# Altium footprint library PcbLib1.PcbLib: 2 footprints
Each footprint in its own frame and in the unit in brackets; x right, y up, seen from the top. Pads: shape width x height; smd on the part's side, far side on the other; paste and mask are expansions set on the pad; w line width, h text height; cw(c..) or ccw(c..) is an arc to the next point about the centre after c.
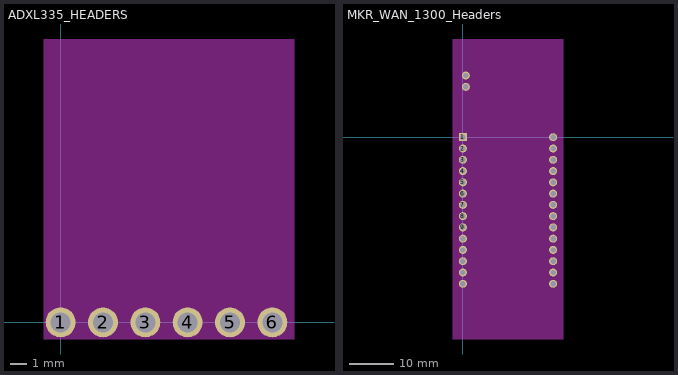
[diagram p0: the footprints below, top view; thin cyan lines are the x and y axes]

## ADXL335_HEADERS [mm]
pads (6):
  round 1.8 hole 1.2: 1(0,0) 2(2.54,0) 3(5.08,0) 4(7.62,0) 5(10.16,0) 6(12.7,0)
Keep-Out Layer:
  region: -1,-1 14,-1 14,17 -1,17

## MKR_WAN_1300_Headers [mm]
pads (30):
  rect 1.8x1.8 hole 1.2: 1(0,0)
  round 1.8 hole 1.2: 2(0,-2.54) 3(0,-5.08) 4(0,-7.62) 5(0,-10.16) 6(0,-12.7) 7(0,-15.24) 8(0,-17.78) 9(0,-20.32) 10(0,-22.86) 11(0,-25.4) 12(0,-27.94) 13(0,-30.48) 14(0,-33.02) 15(20.32,-33.02) 16(20.32,-30.48) 17(20.32,-27.94) 18(20.32,-25.4) 19(20.32,-22.86) 20(20.32,-20.32) 21(20.32,-17.78) 22(20.32,-15.24) 23(20.32,-12.7) 24(20.32,-10.16) 25(20.32,-7.62) 26(20.32,-5.08) 27(20.32,-2.54) 28(20.32,0) 29(0.66,11.365) 30(0.66,13.905)
Keep-Out Layer:
  region: -2.34,22.135 -2.34,-45.465 22.66,-45.465 22.66,22.135